# EAGLE library part CP2104 (library Dennistries-Josh)
CP2104 USB to UART Bridge
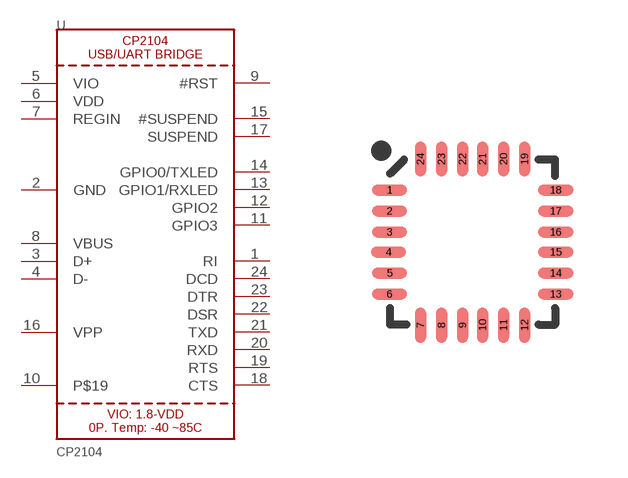
[diagram p9: symbol with the pads of QFN-24; footprint QFN-24]

Designator prefix -

## CP2104  [QFN-24]
1  RI
2  GND
3  D+
4  D-
5  VIO
6  VDD
7  REGIN
8  VBUS
9  #RST
10  P$19
11  GPIO3
12  GPIO2
13  GPIO1/RXLED
14  GPIO0/TXLED
15  #SUSPEND
16  VPP
17  SUSPEND
18  CTS
19  RTS
20  RXD
21  TXD
22  DSR
23  DTR
24  DCD

## Footprint QFN-24 (pad centres in mm)
24-Pin QFN (4 x 4 mm) (1:1 footprint) Datasheet <http://43zrtwysvxb2gf29r5o0athu.wpengine.netdna-cdn.com/wp-content/uploads/2015/02/ITG-3200-Datasheet.pdf> Specifications: Pin Count: 24 Area: 4.0 x 4.0 x 0.9 mm Pitch: 0.5 mm Devices Using: ITG-3200
smd 0.889 x 0.279: 1 -2.076,1.301; 2 -2.076,0.775; 3 -2.076,0.25; 4 -2.102,-0.25; 5 -2.076,-0.775; 6 -2.076,-1.301; 13 2.076,-1.301; 14 2.076,-0.775; 15 2.076,-0.25; 16 2.076,0.25; 17 2.076,0.775; 18 2.076,1.301
smd 0.279 x 0.889: 7 -1.301,-2.076; 8 -0.775,-2.076; 9 -0.25,-2.076; 10 0.25,-2.076; 11 0.775,-2.076; 12 1.301,-2.076; 19 1.301,2.076; 20 0.775,2.076; 21 0.25,2.076; 22 -0.25,2.076; 23 -0.775,2.076; 24 -1.301,2.076